# Altium footprint library KGM21NR71H104JT.PcbLib: 3 footprints
Each footprint in its own frame and in the unit in brackets; x right, y up, seen from the top. Pads: shape width x height; smd on the part's side, far side on the other; paste and mask are expansions set on the pad; w line width, h text height; cw(c..) or ccw(c..) is an arc to the next point about the centre after c.
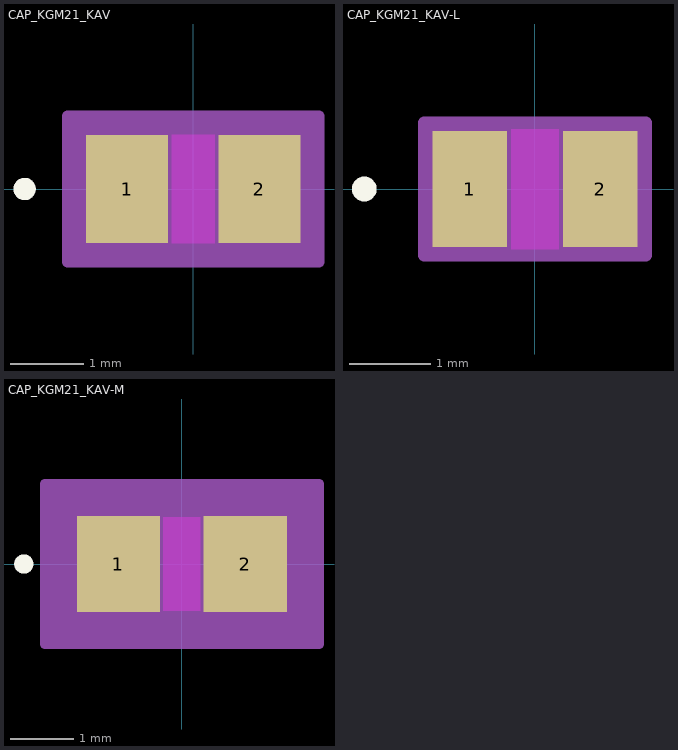
[diagram p0: the footprints below, top view; thin cyan lines are the x and y axes]

## CAP_KGM21_KAV [mil]
pads (2):
  rect 44x58 smd paste+0 mask+0: 1(-35.5,0) 2(35.5,0)
Top Layer keep-out:
  region: -11.5,-27 -11.5,27 11.5,27 11.5,-27
Top Overlay:
  circle w6: c-90.5,0 r3
Keep-Out Layer:
  region: -11.5,-29 -11.5,29 11.5,29 11.5,-29
Mechanical 13:
  circle w0: c-30.5,0 r3
  lines w1: -43.5,-29 -43.5,29 ; -43.5,-29 -13.5,-29 -13.5,29 -43.5,29 ; -43.5,-29 43.5,-29 ; -43.5,-29 -43.5,29 ; -43.5,29 43.5,29 ; 43.5,-29 13.5,-29 13.5,29 43.5,29 ; 43.5,-29 43.5,29 ; 43.5,-29 43.5,29
Mechanical 15:
  region: 67.5,-39 -67.5,-39 -67.5,39 67.5,39
  lines w6: -67.5,-39 -67.5,39 67.5,39 67.5,-39 -67.5,-39
3D body "CAP_KGM21_KAV.step": height 37.01, standoff 0, extent -43.5,-29.02 43.5,29.02

## CAP_KGM21_KAV-L [mil]
pads (2):
  rect 36x56 smd paste+0 mask+0: 1(-31.5,0) 2(31.5,0)
Top Layer keep-out:
  region: -11.5,-27 -11.5,27 11.5,27 11.5,-27
Top Overlay:
  circle w6: c-82.5,0 r3
Keep-Out Layer:
  region: -11.5,-29 -11.5,29 11.5,29 11.5,-29
Mechanical 13:
  circle w0: c-26.5,0 r3
  lines w1: -43.5,-29 -43.5,29 ; -43.5,-29 -13.5,-29 -13.5,29 -43.5,29 ; -43.5,-29 43.5,-29 ; -43.5,-29 -43.5,29 ; -43.5,29 43.5,29 ; 43.5,-29 13.5,-29 13.5,29 43.5,29 ; 43.5,-29 43.5,29 ; 43.5,-29 43.5,29
Mechanical 15:
  region: 53.5,-32 -53.5,-32 -53.5,32 53.5,32
  lines w6: -53.5,-32 -53.5,32 53.5,32 53.5,-32 -53.5,-32
3D body "CAP_KGM21_KAV.step": height 37.01, standoff 0, extent -43.5,-29.02 43.5,29.02

## CAP_KGM21_KAV-M [mil]
pads (2):
  rect 52x60 smd paste+0 mask+0: 1(-39.5,0) 2(39.5,0)
Top Layer keep-out:
  region: -11.5,-27 -11.5,27 11.5,27 11.5,-27
Top Overlay:
  circle w6: c-98.5,0 r3
Keep-Out Layer:
  region: -11.5,-29 -11.5,29 11.5,29 11.5,-29
Mechanical 13:
  circle w0: c-34.5,0 r3
  lines w1: -43.5,-29 -43.5,29 ; -43.5,-29 -13.5,-29 -13.5,29 -43.5,29 ; -43.5,-29 43.5,-29 ; -43.5,-29 -43.5,29 ; -43.5,29 43.5,29 ; 43.5,-29 13.5,-29 13.5,29 43.5,29 ; 43.5,-29 43.5,29 ; 43.5,-29 43.5,29
Mechanical 15:
  region: 85.5,-50 -85.5,-50 -85.5,50 85.5,50
  lines w6: -85.5,-50 -85.5,50 85.5,50 85.5,-50 -85.5,-50
3D body "CAP_KGM21_KAV.step": height 37.01, standoff 0, extent -43.5,-29.02 43.5,29.02